# EAGLE library part 5X7-DOTMATRIX (library bytewerk-led)
5x7 dotmatrix - yellow
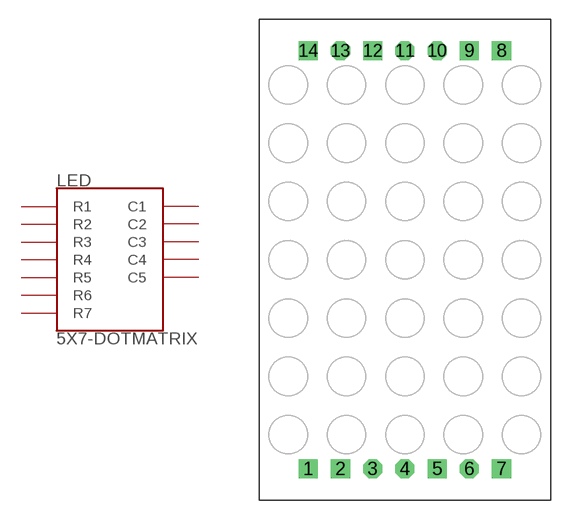
[diagram p0: symbol with the pads of 5X7-DOTMATRIX-ANODE; footprint 5X7-DOTMATRIX-ANODE]

Designator prefix LED

## 5X7-DOTMATRIX  [5X7-DOTMATRIX-ANODE]
1  R5  pas
2  R7  pas
3  C2  pas
4  C3  pas
5  R4  pas
6  C5  pas
7  R6  pas
8  R3  pas
9  R1  pas
10  C4  pas
13  C1  pas
14  R2  pas

## Footprint 5X7-DOTMATRIX-ANODE (pad centres in mm)
drill 1 square: 1 -7.62,-16.5; 2 -5.08,-16.5; 5 2.54,-16.5; 7 7.62,-16.5; 8 7.62,16.5; 9 5.08,16.5; 12 -2.54,16.5; 14 -7.62,16.5
drill 1 octagon: 3 -2.54,-16.5; 4 0,-16.5; 6 5.08,-16.5; 10 2.54,16.5; 11 0,16.5; 13 -5.08,16.5